# EAGLE library part SSM-103-XXX-DH (library samtec)
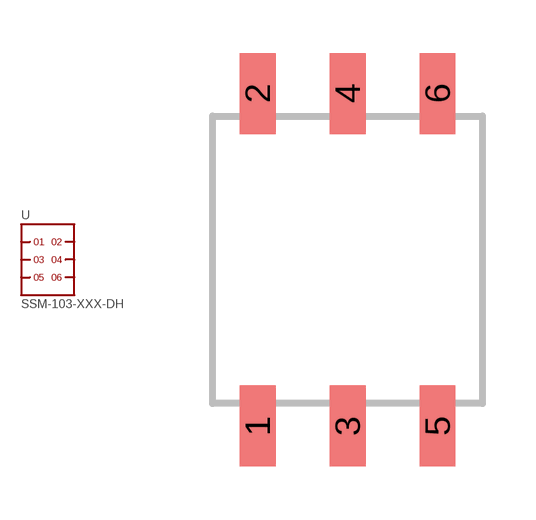
[diagram p0: symbol with the pads of SSM-103-XXX-DH; footprint SSM-103-XXX-DH]

Designator prefix -

## SSM-103-XXX-DH  [SSM-103-XXX-DH]
1  1
2  2
3  3
4  4
5  5
6  6

## Footprint SSM-103-XXX-DH (pad centres in mm)
smd 1.016 x 2.286: 1 -2.54,-4.699; 2 -2.54,4.699; 3 0,-4.699; 4 0,4.699; 5 2.54,-4.699; 6 2.54,4.699